# Altium integrated library con-conrad.IntLib: 7 symbols
Pins are listed as number, name and electrical type; pins without a type are passive.

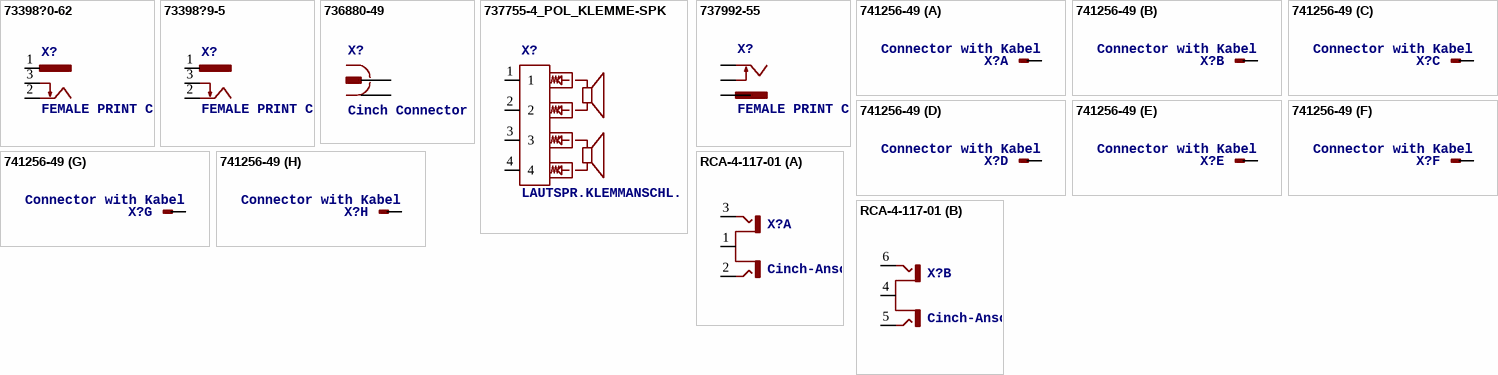
[diagram p0: symbols 73398?0-62 to RCA-4-117-01]

## 73398?0-62
designator X?, comment FEMALE PRINT CONNECTOR   Niedervolt-Steckverbinder Distributor Conrad
footprint 733980-62
pins: 1, 2, 3

## 73398?9-5
designator X?, comment FEMALE PRINT CONNECTOR   Niedervolt-Steckverbinder Distributor Conrad
footprint 733989-5
pins: 1, 2, 3

## 736880-49
designator X?, comment Cinch Connector ( RCA Jack )   Cinch-Einbaukupplung 90º 72345 Vernickelt BKL Electronic Source:  Conrad
footprint 736880-49
pins: 1 1@1 1@2 1, 2

## 737755-4_POL_KLEMME-SPK
designator X?, comment LAUTSPR.KLEMMANSCHL. 4 POL. LOCHABST. 57   Source: http://www2.produktinfo.conrad.com/datenblaetter/725000-749999/737755-da-01-en-Lautsprecher-Klemmanschluss_4polig.pdf
footprint 737755-4_POL_KLEMME-SPK
pins: 1, 2, 3, 4

## 737992-55
designator X?, comment FEMALE PRINT CONNECTOR   DIN 45323 (34V/3A), ROKA, distributor Conrad
footprint 737992-5
pins: +, -1, -2, K

## 741256-49
designator X?, comment Connector with Kabel
footprint 741256-49
part A pins: 1 KL
part B pins: 2 KL
part C pins: 3 KL
part D pins: 4 KL
part E pins: 5 KL
part F pins: 6 KL
part G pins: 7 KL
part H pins: 8 KL

## RCA-4-117-01
designator X?, comment Cinch-Anschlussplatte 72385 Gold, Rot, Weiß BKL Electronic   Conrad Bestellnummer : 736910 - 62 Source: Data sheet
footprint RCA-4-117-01
part A pins: 1 S, 2 T1, 3 T2
part B pins: 4 S, 5 T1, 6 T2